# Altium schematic symbol library SCH - MCU - ATTINY - MICROCHIP ATTINY88-MU QFN32.SchLib: 1 symbol
Pins are listed as number, name and electrical type; pins without a type are passive.

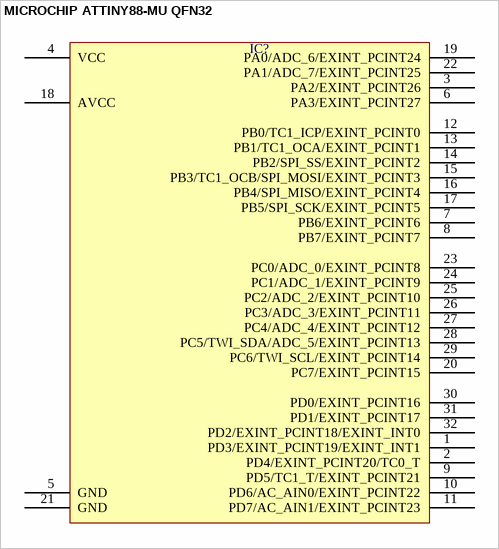
[diagram p0: symbol MICROCHIP ATTINY88-MU QFN32]

## MICROCHIP ATTINY88-MU QFN32
designator IC?  (value not drawn)
pins: 1 PD3/EXINT_PCINT19/EXINT_INT1, 2 PD4/EXINT_PCINT20/TC0_T, 3 PA2/EXINT_PCINT26, 4 VCC, 5 GND, 6 PA3/EXINT_PCINT27, 7 PB6/EXINT_PCINT6, 8 PB7/EXINT_PCINT7, 9 PD5/TC1_T/EXINT_PCINT21, 10 PD6/AC_AIN0/EXINT_PCINT22, 11 PD7/AC_AIN1/EXINT_PCINT23, 12 PB0/TC1_ICP/EXINT_PCINT0, 13 PB1/TC1_OCA/EXINT_PCINT1, 14 PB2/SPI_SS/EXINT_PCINT2, 15 PB3/TC1_OCB/SPI_MOSI/EXINT_PCINT3, 16 PB4/SPI_MISO/EXINT_PCINT4, 17 PB5/SPI_SCK/EXINT_PCINT5, 18 AVCC, 19 PA0/ADC_6/EXINT_PCINT24, 20 PC7/EXINT_PCINT15, 21 GND, 22 PA1/ADC_7/EXINT_PCINT25, 23 PC0/ADC_0/EXINT_PCINT8, 24 PC1/ADC_1/EXINT_PCINT9, 25 PC2/ADC_2/EXINT_PCINT10, 26 PC3/ADC_3/EXINT_PCINT11, 27 PC4/ADC_4/EXINT_PCINT12, 28 PC5/TWI_SDA/ADC_5/EXINT_PCINT13, 29 PC6/TWI_SCL/EXINT_PCINT14, 30 PD0/EXINT_PCINT16, 31 PD1/EXINT_PCINT17, 32 PD2/EXINT_PCINT18/EXINT_INT0